# Altium schematic symbol library TSS-106-01-L-D.SchLib: 1 symbol
Pins are listed as number, name and electrical type; pins without a type are passive.

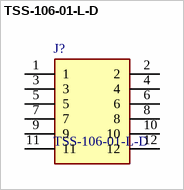
[diagram p0: symbol TSS-106-01-L-D]

## TSS-106-01-L-D
designator J?
.100" Shrouded Terminal Strip; Manufacturer_Name: SAMTEC; Mouser Part Number: 200-TSS10601LD; Mouser Price/Stock: https://www.mouser.com/Search/Refine.aspx?Keyword=200-TSS10601LD; Manufacturer_Part_Number: TSS-106-01-L-D; Datasheet Link: https://componentsearchengine.com/Datasheets/1/TSS-106-01-L-D.pdf
footprint TSS-106-XX-YYY-D
pins: 1, 2, 3, 4, 5, 6, 7, 8, 9, 10, 11, 12